# EAGLE library part S25FL127SABMFI101 (library NR_IC)
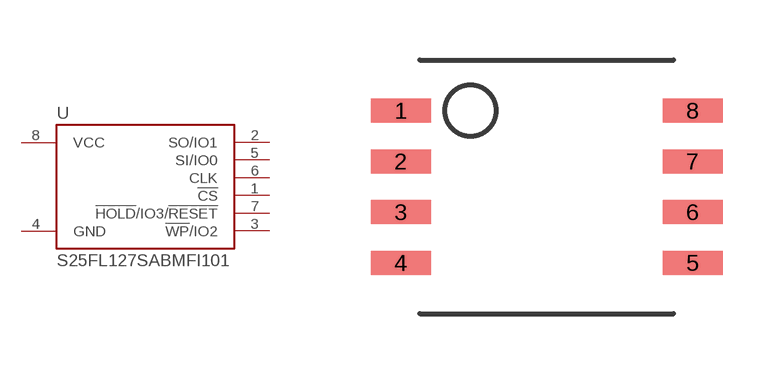
[diagram p6: symbol with the pads of SOIC-8-WIDE; footprint SOIC-8-WIDE]

Designator prefix U

## S25FL127SABMFI101  [SOIC-8-WIDE]
1  !CS!
2  SO/IO1
3  !WP!/IO2
4  GND  pwr
5  SI/IO0
6  CLK
7  !HOLD!/IO3/!RESET!
8  VCC  pwr

## Footprint SOIC-8-WIDE (pad centres in mm)
smd 1.5 x 0.6: 1 -3.65,1.905; 2 -3.65,0.635; 3 -3.65,-0.635; 4 -3.65,-1.905; 5 3.65,-1.905; 6 3.65,-0.635; 7 3.65,0.635; 8 3.65,1.905